# EAGLE library part LPCXPRESSO_LPC11C24 (library LPCXpresso_LPC1769_board)
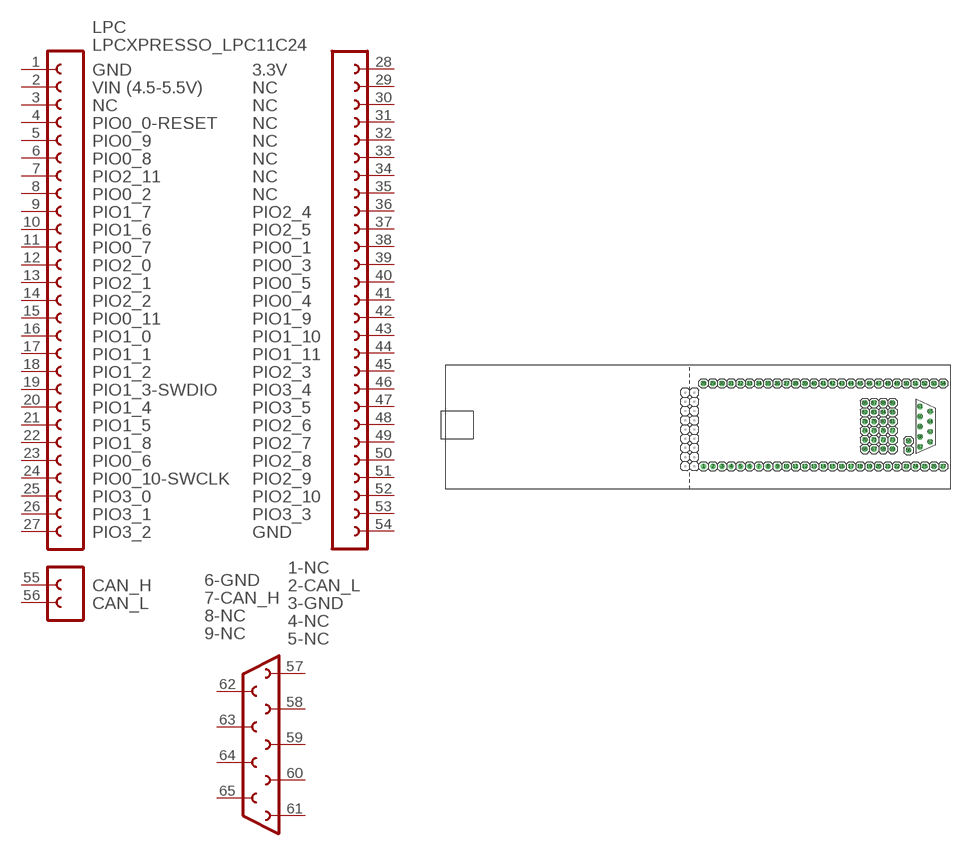
[diagram p0: symbol with the pads of LPCXPRESSO_LPC11C24; footprint LPCXPRESSO_LPC11C24]

Designator prefix LPC

## LPCXPRESSO_LPC11C24  [LPCXPRESSO_LPC11C24]
1  1  pas
2  2  pas
3  3  pas
4  4  pas
5  5  pas
6  6  pas
7  7  pas
8  8  pas
9  9  pas
10  10  pas
11  11  pas
12  12  pas
13  13  pas
14  14  pas
15  15  pas
16  16  pas
17  17  pas
18  18  pas
19  19  pas
20  20  pas
21  21  pas
22  22  pas
23  23  pas
24  24  pas
25  25  pas
26  26  pas
27  27  pas
28  28  pas
29  29  pas
30  30  pas
31  31  pas
32  32  pas
33  33  pas
34  34  pas
35  35  pas
36  36  pas
37  37  pas
38  38  pas
39  39  pas
40  40  pas
41  41  pas
42  42  pas
43  43  pas
44  44  pas
45  45  pas
46  46  pas
47  47  pas
48  48  pas
49  49  pas
50  50  pas
51  51  pas
52  52  pas
53  53  pas
54  54  pas
55  55  pas
56  56  pas
57  57  pas
58  58  pas
59  59  pas
60  60  pas
61  61  pas
62  62  pas
63  63  pas
64  64  pas
65  65  pas

## Footprint LPCXPRESSO_LPC11C24 (pad centres in mm)
drill 1 octagon: 1 3.81,-11.43; 2 6.35,-11.43; 3 8.89,-11.43; 4 11.43,-11.43; 5 13.97,-11.43; 6 16.51,-11.43; 7 19.05,-11.43; 8 21.59,-11.43; 9 24.13,-11.43; 10 26.67,-11.43; 11 29.21,-11.43; 12 31.75,-11.43; 13 34.29,-11.43; 14 36.83,-11.43; 15 39.37,-11.43; 16 41.91,-11.43; 17 44.45,-11.43; 18 46.99,-11.43; 19 49.53,-11.43; 20 52.07,-11.43; 21 54.61,-11.43; 22 57.15,-11.43; 23 59.69,-11.43; 24 62.23,-11.43; 25 64.77,-11.43; 26 67.31,-11.43; 27 69.85,-11.43; 28 3.81,11.43; 29 6.35,11.43; 30 8.89,11.43; 31 11.43,11.43; 32 13.97,11.43; 33 16.51,11.43; 34 19.05,11.43; 35 21.59,11.43; 36 24.13,11.43; 37 26.67,11.43; 38 29.21,11.43; 39 31.75,11.43; 40 34.29,11.43; 41 36.83,11.43; 42 39.37,11.43; 43 41.91,11.43; 44 44.45,11.43; 45 46.99,11.43; 46 49.53,11.43; 47 52.07,11.43; 48 54.61,11.43; 49 57.15,11.43; 50 59.69,11.43; 51 62.23,11.43; 52 64.77,11.43; 53 67.31,11.43; 54 69.85,11.43; 55 60.325,-4.445; 56 60.325,-6.985; 57 63.5,-6.096; 58 63.5,-3.302; 59 63.5,-0.508; 60 63.5,2.286; 61 63.5,5.08; 62 66.294,-4.699; 63 66.294,-1.905; 64 66.294,0.889; 65 66.294,3.683; 66 48.26,-6.68; 67 50.8,-6.68; 68 53.34,-6.68; 69 55.88,-6.68; 70 48.26,-4.14; 71 50.8,-4.14; 72 53.34,-4.14; 73 55.88,-4.14; 74 48.26,-1.6; 75 50.8,-1.6; 76 53.34,-1.6; 77 55.88,-1.6; 78 48.26,0.94; 79 50.8,0.94; 80 53.34,0.94; 81 55.88,0.94; 82 48.26,3.48; 83 50.8,3.48; 84 53.34,3.48; 85 55.88,3.48; 86 48.26,6.02; 87 50.8,6.02; 88 53.34,6.02; 89 55.88,6.02